# Altium schematic symbol library STM32F407ZGT6_CORE_BOARD.SCHLIB: 23 symbols
Pins are listed as number, name and electrical type; pins without a type are passive.

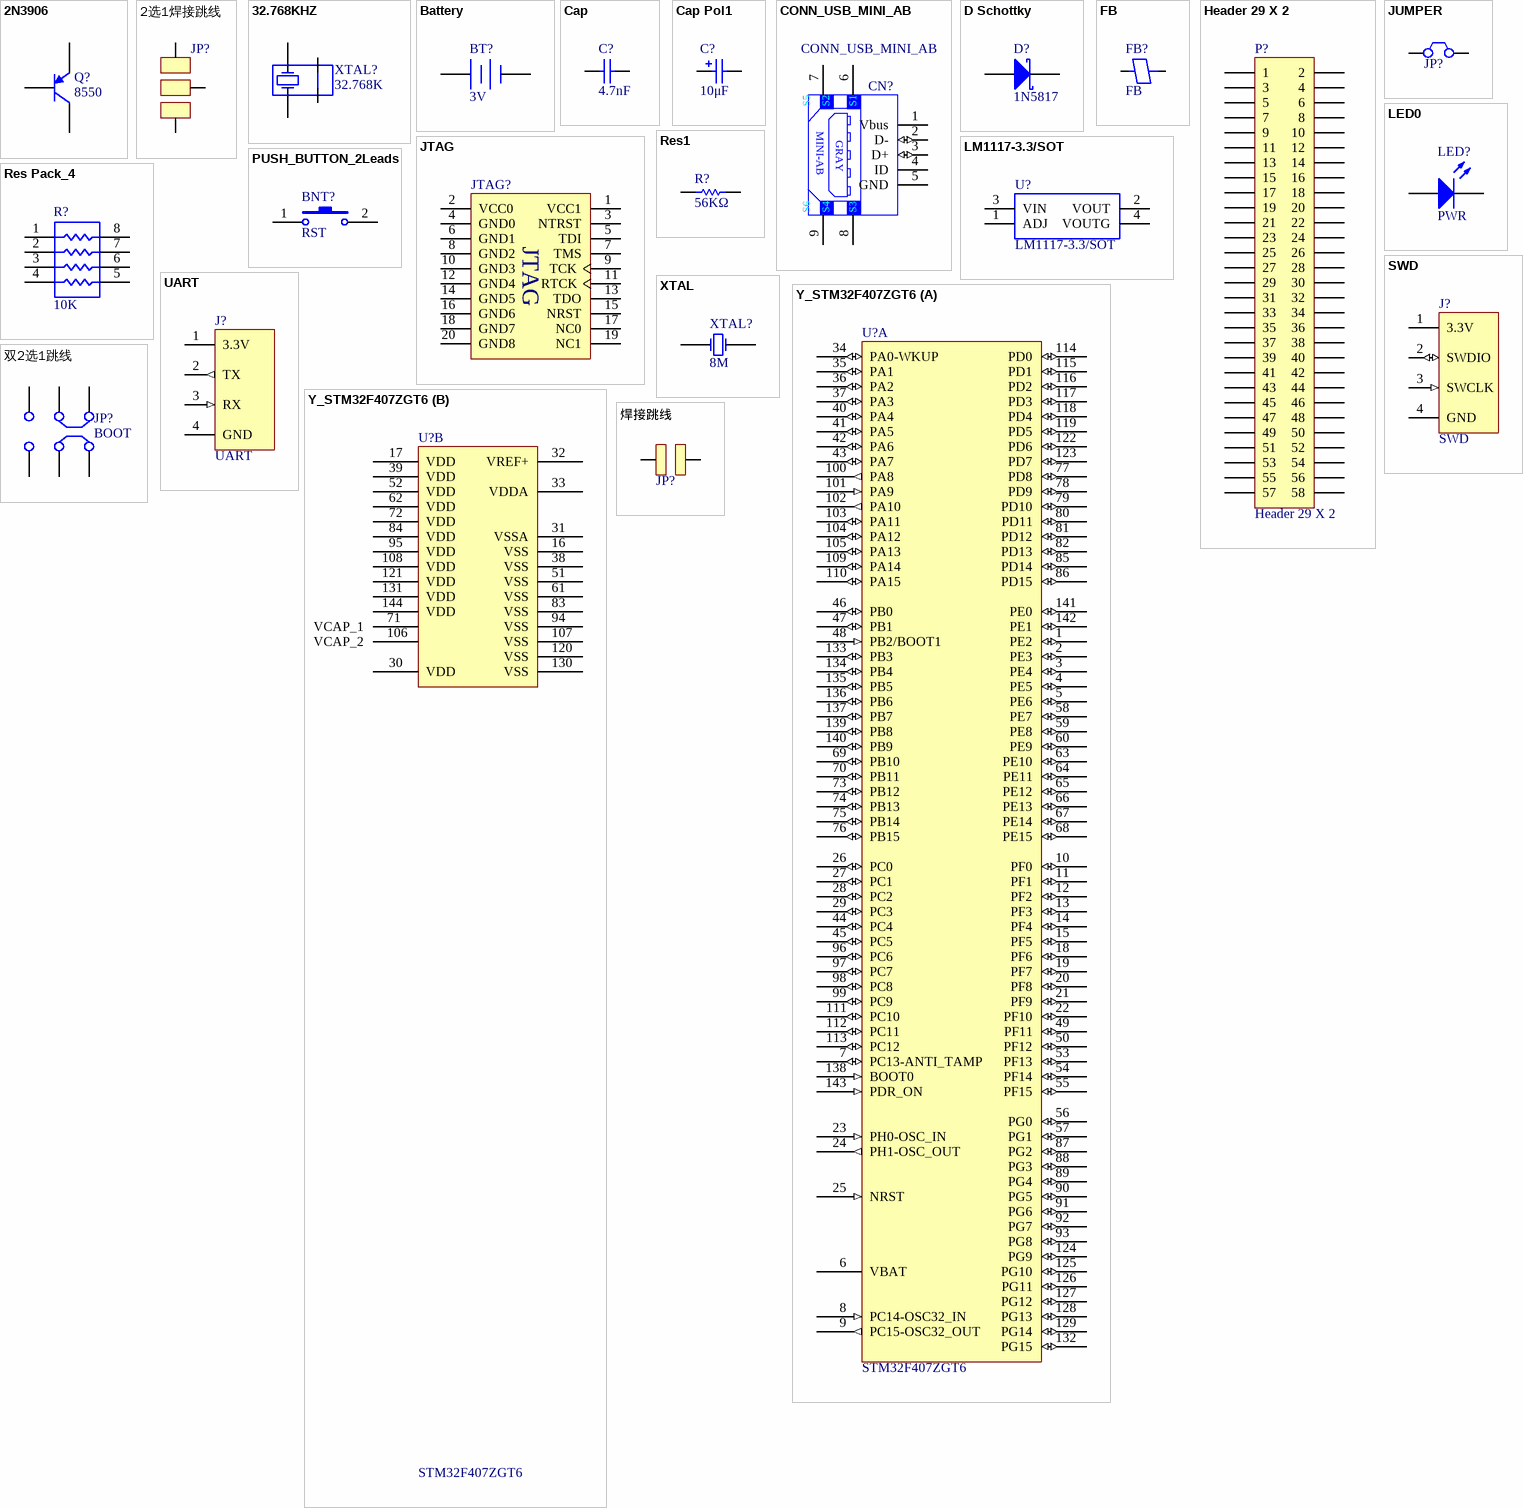
[diagram p0: symbols 2N3906 to 焊接跳线]

## 2N3906
designator Q?, comment 8550
PNP General Purpose Amplifier; Published: 8-Jun-2000; LatestRevisionDate: 15-Jan-2003; LatestRevisionNote: PCB Footprint 'BCY-W3/D4.7' replaced; DatasheetDocument: 1997; PackageDocument: Sep-1998; PackageReference: TO-92A; Publisher: Altium Limited; Code_JEDEC: TO-92A; ComponentLink1Description: Manufacturer Link; ComponentLink1URL: http://www.fairchildsemi.com/; ComponentLink2Description: Datasheet; ComponentLink2URL: http://www.fairchildsemi.com/ds/2N%2F2N3906.pdf
simulation model 2N3906 (PNP)
signal-integrity model 2N3906
footprint SOT23A (SOT-23; 3 Leads; Body 3.0 x 2.5 mm, inc. leads (LxW max)); pin to pad 1>2 2>1
pins: 1 E, 2 B, 3 C

## 2选1焊接跳线
designator JP?, comment 2选1 焊接跳线  (value not drawn)
footprint 2选1 焊接跳线
pins: 1 (power), 2 (power), 3 (power)

## 32.768KHZ
designator XTAL?, comment 32.768K
footprint 爱普生MC-306晶振32.768K (4Leads,Pitch3.5mm,5.5mm,贴片)
pins: 1 OSC1, 2, 3, 4 OSC2

## Battery
designator BT?, comment 3V
Multicell Battery; Published: 24-Mar-1999; LatestRevisionDate: 17-Jul-2002; LatestRevisionNote: Re-released for DXP Platform.; PackageReference: BAT-2; Publisher: Altium Limited
footprint XH414HG-IV01E 3.3V 0.07F (3.3V 0.07法拉电容,后备电池 法拉电容)
pins: 1 +, 2 -

## Cap
designator C?  value 4.7nF  (hidden comment: Cap)
Capacitor; Published: 8-Jun-2000; LatestRevisionDate: 17-Jul-2002; LatestRevisionNote: Re-released for DXP Platform.; PackageReference: RAD-0.3; Publisher: Altium Limited
simulation model CAP (Capacitor)
signal-integrity model Cap
footprint 6-0805 (Chip Resistor; Body 2.0 x 1.3 mm (LxW typ)  ,1/8W ,150V)
footprint 1608[0603] (Chip Capacitor; Body 1.6 x 0.8 mm (LxW typ) 1/10W 50V)
pins: 1, 2

## Cap Pol1
designator C?  value 10μF  (hidden comment: Cap Pol1)
Polarized Capacitor (Radial); Published: 8-Jun-2000; LatestRevisionDate: 17-Jul-2002; LatestRevisionNote: Re-released for DXP Platform.; PackageReference: RB7.6-15; Publisher: Altium Limited
footprint B (Capacitor, Electrolytic, Radial; Body 5 x 6.8 mm (Dia.xH typ); Pin Spacing 2 mm (typ))
footprint CAPPR5-5x5 (Capacitor, Electrolytic, Radial; Body 5 x 5 mm (Dia.xH typ); Pin Spacing 5 mm (typ))
footprint CAPPR7.5-16x35 (Capacitor, Electrolytic, Radial; Body 16 x 35 mm (Dia.xH typ); Pin Spacing 7.5 mm (typ))
simulation model CAP (Capacitor)
signal-integrity model Cap Pol
footprint C1210 (Chip Capacitor; Body 3.2 x 2.5 mm (LxW typ))
pins: 1, 2
1 alternate drawing of the same symbol

## CONN_USB_MINI_AB
designator CN?
footprint USB_7 (4个条形过孔固定)
pins: 1 Vbus (power), 2 D- (io), 3 D+ (io), 4 ID, 5 GND (power), 6 (power), 7 (power), 8 (power), 9 (power)
text: S5; S2; S1; MINI-AB; GRAY; S6; S4; S3

## D Schottky
designator D?, comment 1N5817
Schottky Diode; Published: 8-Jun-2000; LatestRevisionDate: 17-Jul-2002; LatestRevisionNote: Re-released for DXP Platform.; PackageReference: SMB; Publisher: Altium Limited; Code_JEDEC: DO-214-AA
footprint SMB (DO-214-AA/SMB; 2 C-Bend Leads; Body 5.3 x 3.6 mm, inc. leads (LxW))
simulation model SKYDIODE (Diode)
signal-integrity model D Schottky
pins: 1 A, 2 K

## FB
designator FB?
footprint 6-0805 (Chip Resistor; Body 2.0 x 1.3 mm (LxW typ)  ,1/8W ,150V)
footprint 1608[0603] (Chip Capacitor; Body 1.6 x 0.8 mm (LxW typ))
pins: 1, 2

## Header 29 X 2
designator P?
Header, 29-Pin, Dual row
footprint HDR2X29 (Connector; Header; 29x2 Position)
pins: 1, 2, 3, 4, 5, 6, 7, 8, 9, 10, 11, 12, 13, 14, 15, 16, 17, 18, 19, 20, 21, 22, 23, 24, 25, 26, 27, 28, 29, 30, 31, 32, 33, 34, 35, 36, 37, 38, 39, 40, 41, 42, 43, 44, 45, 46, 47, 48, 49, 50, 51, 52, 53, 54, 55, 56, 57, 58

## JTAG
designator JTAG?  (value not drawn)
footprint JTAG20 (Pitch 2.54mm)
pins: 1 VCC1 (power), 2 VCC0 (power), 3 NTRST, 4 GND0 (power), 5 TDI, 6 GND1 (power), 7 TMS, 8 GND2 (power), 9 TCK, 10 GND3 (power), 11 RTCK, 12 GND4 (power), 13 TDO, 14 GND5 (power), 15 NRST, 16 GND6 (power), 17 NC0, 18 GND7 (power), 19 NC1, 20 GND8 (power)

## JUMPER
designator JP?, comment Jumper Wire  (value not drawn)
footprint JUMP WIRE (2Leads,Pitch2.54mm[100mil],Hole0.9144mm[36mil])
pins: 1 C1, 2 C2

## LED0
designator LED?, comment PWR
Typical INFRARED GaAs LED; Published: 8-Jun-2000; LatestRevisionDate: 08-Jul-2005; LatestRevisionNote: Mech Layer 1 removed.; PackageReference: LED-0; Publisher: Altium Limited
simulation model LED0 (Diode)
footprint LED_0805
footprint 1608[0603] (Chip Capacitor; Body 1.6 x 0.8 mm (LxW typ) 1/10W 50V)
footprint LED_0603
pins: 1 A, 2 K

## LM1117-3.3/SOT
designator U?
footprint SOT223 (SOT-223/SC-73; 4 Leads; Body 6.7 x 7.3 mm, inc. leads (LxW max))
footprint SOT_89 (SOT-89; Body 4.6 x 4.25 mm, inc. leads (LxW max))
pins: 1 ADJ (power), 2 VOUT (power), 3 VIN (power), 4 VOUTG (power)

## PUSH_BUTTON_2Leads
designator BNT?, comment RST
footprint KAYB_2 (2Leads,Pitch6.5mm,Hole1.016mm[40mil]  1.3mm)
pins: 1, 2

## Res1
designator R?  value 56KΩ  (hidden comment: Res1)
Resistor; Published: 8-Jun-2000; LatestRevisionDate: 17-Jul-2002; LatestRevisionNote: Re-released for DXP Platform.; PackageReference: AXIAL-0.3; Publisher: Altium Limited
footprint AXIAL-0.3 (Resistor; 2 Leads)
simulation model RESISTOR (Resistor)
signal-integrity model Res
footprint 6-0805 (Chip Resistor; Body 2.0 x 1.3 mm (LxW typ)  ,1/8W ,150V)
footprint 1608[0603] (Chip Capacitor; Body 1.6 x 0.8 mm (LxW typ) 1/10W 50V)
pins: 1, 2

## Res Pack_4
designator R?, comment 10K
footprint RCA03-4D(0603)
pins: 1, 2, 3, 4, 5, 6, 7, 8

## SWD
designator J?
footprint SWD (SWD接口4Leads,Pitch2.54mm)
pins: 1 3.3V (power), 2 SWDIO (io), 3 SWCLK (in), 4 GND (power)

## UART
designator J?
footprint UART (UART接口,4Leads,Pitch2.54mm)
pins: 1 3.3V (power), 2 TX (out), 3 RX (in), 4 GND (power)

## XTAL
designator XTAL?, comment 8M
Crystal Oscillator; Published: 8-Jun-2000; LatestRevisionDate: 17-Jul-2002; LatestRevisionNote: Re-released for DXP Platform.; PackageReference: R38; Publisher: Altium Limited
simulation model XTAL (Spice Subcircuit)
footprint XTAL_T (2Leads,Pitch5.08mm,Hole0.762mm(30mil))
pins: 1 OSC1, 2 OSC2

## Y_STM32F407ZGT6
designator U?, comment STM32F407ZGT6
footprint LQFP144
part A pins: 1 PE2 (io), 2 PE3 (io), 3 PE4 (io), 4 PE5 (io), 5 PE6 (io), 6 VBAT (power), 7 PC13-ANTI_TAMP (io), 8 PC14-OSC32_IN (in), 9 PC15-OSC32_OUT (out), 10 PF0 (io), 11 PF1 (io), 12 PF2 (io), 13 PF3 (io), 14 PF4 (io), 15 PF5 (io), 18 PF6 (io), 19 PF7 (io), 20 PF8 (io), 21 PF9 (io), 22 PF10 (io), 23 PH0-OSC_IN (in), 24 PH1-OSC_OUT (out), 25 NRST (in), 26 PC0 (io), 27 PC1 (io), 28 PC2 (io), 29 PC3 (io), 34 PA0-WKUP (io), 35 PA1 (io), 36 PA2 (io), 37 PA3 (io), 40 PA4 (io), 41 PA5 (io), 42 PA6 (io), 43 PA7 (io), 44 PC4 (io), 45 PC5 (io), 46 PB0 (io), 47 PB1 (io), 48 PB2/BOOT1 (in), 49 PF11 (io), 50 PF12 (io), 53 PF13 (io), 54 PF14 (io), 55 PF15 (io), 56 PG0 (io), 57 PG1 (io), 58 PE7 (io), 59 PE8 (io), 60 PE9 (io), 63 PE10 (io), 64 PE11 (io), 65 PE12 (io), 66 PE13 (io), 67 PE14 (io), 68 PE15 (io), 69 PB10 (io), 70 PB11 (io), 73 PB12 (io), 74 PB13 (io), 75 PB14 (io), 76 PB15 (io), 77 PD8 (io), 78 PD9 (io), 79 PD10 (io), 80 PD11 (io), 81 PD12 (io), 82 PD13 (io), 85 PD14 (io), 86 PD15 (io), 87 PG2 (io), 88 PG3 (io), 89 PG4 (io), 90 PG5 (io), 91 PG6 (io), 92 PG7 (io), 93 PG8 (io), 96 PC6 (io), 97 PC7 (io), 98 PC8 (io), 99 PC9 (io), 100 PA8 (out), 101 PA9 (in), 102 PA10 (out), 103 PA11 (io), 104 PA12 (io), 105 PA13 (io), 109 PA14 (io), 110 PA15 (io), 111 PC10 (io), 112 PC11 (io), 113 PC12 (io), 114 PD0 (io), 115 PD1 (io), 116 PD2 (io), 117 PD3 (io), 118 PD4 (io), 119 PD5 (io), 122 PD6 (io), 123 PD7 (io), 124 PG9 (io), 125 PG10 (io), 126 PG11 (io), 127 PG12 (io), 128 PG13 (io), 129 PG14 (io), 132 PG15 (io), 133 PB3 (io), 134 PB4 (io), 135 PB5 (io), 136 PB6 (io), 137 PB7 (io), 138 BOOT0 (in), 139 PB8 (io), 140 PB9 (io), 141 PE0 (io), 142 PE1 (io), 143 PDR_ON (in)
part B pins: 16 VSS (power), 17 VDD (power), 30 VDD (power), 31 VSSA (power), 32 VREF+ (power), 33 VDDA (power), 38 VSS (power), 39 VDD (power), 51 VSS (power), 52 VDD (power), 61 VSS (power), 62 VDD (power), 71 VCAP_1 (power), 72 VDD (power), 83 VSS (power), 84 VDD (power), 94 VSS (power), 95 VDD (power), 106 VCAP_2 (power), 107 VSS (power), 108 VDD (power), 120 VSS (power), 121 VDD (power), 130 VSS (power), 131 VDD (power), 144 VDD (power)

## 双2选1跳线
designator JP?, comment BOOT
footprint HDR2X3_CEN (Connector; Header; 3x2 Position Pitch2.54mm)
pins: 1, 2, 3, 4, 5, 6

## 焊接跳线
designator JP?, comment 用焊锡连接的跳线  (value not drawn)
footprint 焊接跳线 (2个焊接铜箔的距离12mil,2个铜箔大小为30X30mil)
pins: 1 (power), 2 (power)